# Altium integrated library balenaFin_v1_x_x.IntLib: 123 symbols (part 2 of 2)
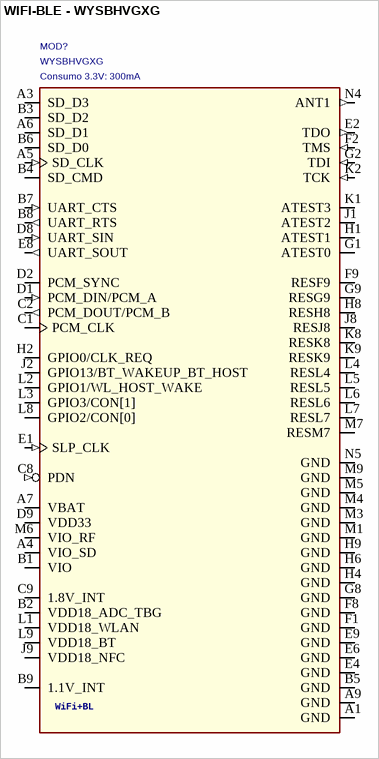
[diagram p5: symbol WIFI-BLE - WYSBHVGXG]

## WIFI-BLE - WYSBHVGXG
designator MOD?, comment WYSBHVGXG  Consumo: Consumo 3.3V: 300mA
MODULO WIFI+BL WYSBHVGXG TAIYO YUDEN SMT; ROOM: WIFI-BLUETOOTH; Database: 41051; Temp Range: -30°..+85°; Pkg Type: SMD; Note: 2.4G - 5G - BLE 4.2; Price Distributor Cad: 12,5; Distributor: FAE; Modello: WIFI+BL; Famiglia: MODULO
footprint MOD-WYSBHVGXG
pins: A1 GND (power), A3 SD_D3 (io), A4 VIO_SD (power), A5 SD_CLK (in), A6 SD_D1 (io), A7 VBAT (power), A9 GND (power), B1 VIO (power), B2 VDD18_ADC_TBG (power), B3 SD_D2 (io), B4 SD_CMD (io), B5 GND (power), B6 SD_D0 (io), B7 UART_CTS (in), B8 UART_RTS (out), B9 1.1V_INT (power), C1 PCM_CLK (io), C2 PCM_DOUT/PCM_B (out), C8 PDN (in), C9 1.8V_INT (power), D1 PCM_DIN/PCM_A (in), D2 PCM_SYNC (io), D8 UART_SIN (in), D9 VDD33 (power), E1 SLP_CLK (in), E2 TDO (out), E4 GND (power), E6 GND (power), E8 UART_SOUT (out), E9 GND (power), F1 GND (power), F2 TMS (in), F8 GND (power), F9 RESF9, G1 ATEST0, G2 TDI (in), G8 GND (power), G9 RESG9, H1 ATEST1, H2 GPIO0/CLK_REQ, H4 GND (power), H6 GND (power), H8 RESH8, H9 GND (power), J1 ATEST2, J2 GPIO13/BT_WAKEUP_BT_HOST, J8 RESJ8, J9 VDD18_NFC (power), K1 ATEST3, K2 TCK (in), K8 RESK8, K9 RESK9, L1 VDD18_WLAN (power), L2 GPIO1/WL_HOST_WAKE, L3 GPIO3/CON[1], L4 RESL4, L5 RESL5, L6 RESL6, L7 RESL7, L8 GPIO2/CON[0], L9 VDD18_BT (power), M1 GND (power), M3 GND (power), M4 GND (power), M5 GND (power), M6 VIO_RF (power), M7 RESM7, M9 GND (power), N4 ANT1 (out), N5 GND (power)
text: WiFi+BL